# Altium footprint library Header-connector.PcbLib: 29 footprints (part 1 of 2)
Each footprint in its own frame and in the unit in brackets; x right, y up, seen from the top. Pads: shape width x height; smd on the part's side, far side on the other; paste and mask are expansions set on the pad; w line width, h text height; cw(c..) or ccw(c..) is an arc to the next point about the centre after c.
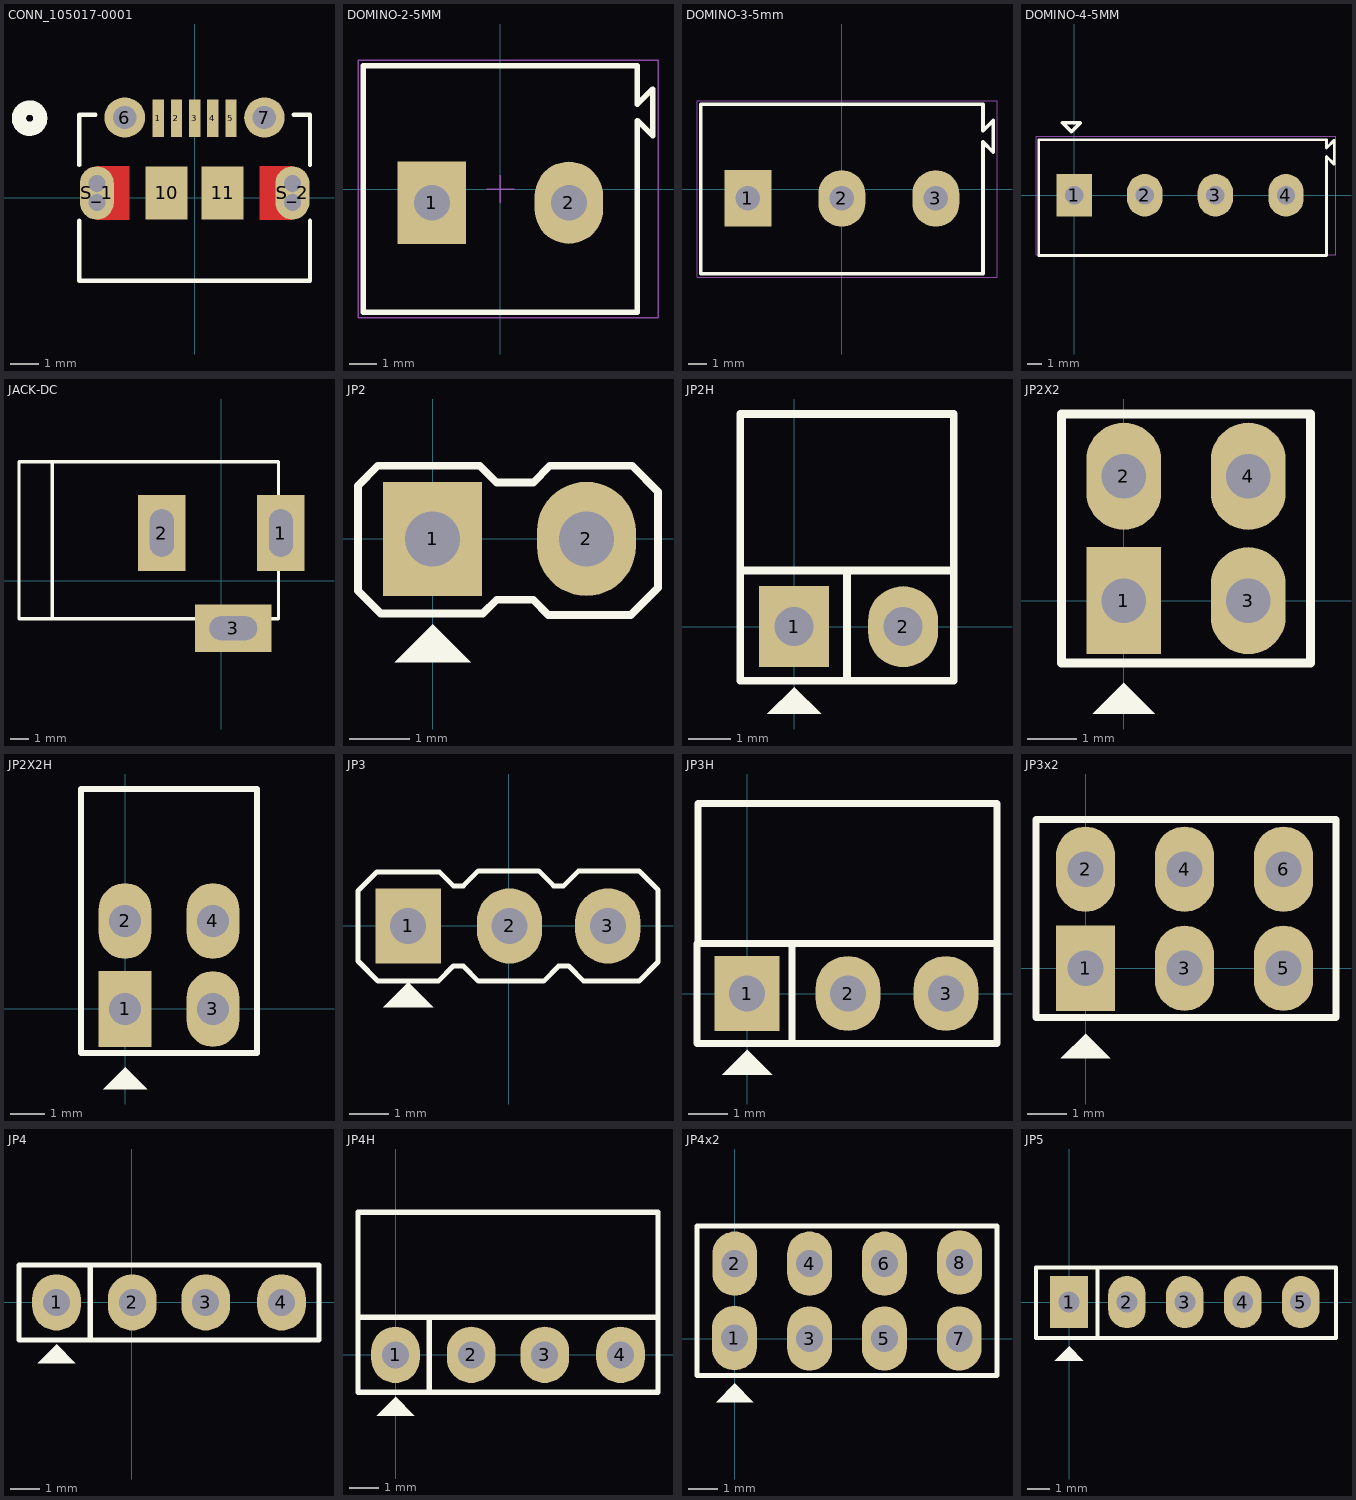
[diagram p0: the footprints below, top view; thin cyan lines are the x and y axes]

## CONN_105017-0001 [mil]
pads (15):
  rect 16x53 smd: 1(-51.18,112) 2(-25.59,112) 3(0,112) 4(25.59,112) 5(51.18,112)
  round 57 hole 33: 6(-98.43,112.98) 7(98.43,112.98)
  rect 59x75 smd: 10(-39.37,6.68) 11(39.37,6.68)
  oval 48x75 hole 1 mask+0: S_1(-137.8,6.68) S_2(137.8,6.68)
  round 24 hole 24: S_1_H1(-137.8,20.18) S_1_H2(-137.8,-6.82) S_2_H1(137.8,20.18) S_2_H2(137.8,-6.82)
Top Layer:
  region: -91.8,-30.82 -91.8,44.19 -137.8,44.19 -137.8,-30.82
  region: 91.8,-30.82 91.8,44.19 137.8,44.19 137.8,-30.82
Top Overlay:
  circle w20: c-232.5,112 r15
  lines w6: -162.5,-32.59 -162.5,-117 162.5,-117 162.5,-32.59 ; -162.5,45.96 -162.5,117 -139.83,117 ; 139.83,117 162.5,117 162.5,45.96
Bottom Overlay:
  circle w20: c-232.5,112 r15
Top Paste:
  region: 91.8,-30.82 91.8,44.19 137.8,44.19 137.8,-30.82
  region: -91.8,-30.82 -91.8,44.19 -137.8,44.19 -137.8,-30.82
Top Solder:
  region: 91.8,-30.82 91.8,44.19 137.8,44.19 137.8,-30.82
  region: -91.8,-30.82 -91.8,44.19 -137.8,44.19 -137.8,-30.82
Multi-Layer:
  lines w24: -137.8,-6.82 -137.8,20.18 ; 137.8,-6.82 137.8,20.18
3D body: height 10, standoff 0, extent 0,0 10,10
3D body "1050170001.stp": height 108.07, standoff -21.85, extent -161.42,-95 161.42,117.6

## DOMINO-2-5MM [mm] "Serie 1347 - 5.00 mm_2 pins"
height 13
pads (2):
  rect 2.5x3 hole 1.3: 1(-2.5,-0.5)
  oval 2.5x3 hole 1.3: 2(2.5,-0.5)
Top Overlay:
  lines w0.2: -5,-4.5 -5,4.5 5,4.5 5,3.1 5.55,3.65 5.55,1.95 5,2.5 5,-4.5 -5,-4.5
Mechanical 13:
  lines w0.1: -5,-4.5 5,-4.5 5,2.5 5.55,1.95 5.55,3.65 5,3.1 5,4.5 -5,4.5 -5,-4.5
Mechanical 15:
  lines w0.05: -0.5,0 0.5,0 ; 0,-0.5 0,0.5 ; -5.2,-4.7 -5.2,4.7 5.75,4.7 5.75,-4.7 -5.2,-4.7
3D body "691134710002.stp": height 13.1, standoff -3.9, extent -5,-4.5 5.55,4.5

## DOMINO-3-5mm [mm] "Serie 1347 - 5.00 mm_3 pins"
height 13
pads (3):
  rect 2.5x3 hole 1.3: 1(-5,-0.5)
  oval 2.5x3 hole 1.3: 2(0,-0.5) 3(5,-0.5)
Top Overlay:
  lines w0.2: -7.5,-4.5 7.5,-4.5 7.5,2.5 8.05,1.95 8.05,3.65 7.5,3.1 7.5,4.5 -7.5,4.5 -7.5,-4.5
Mechanical 13:
  lines w0.1: -7.5,-4.5 -7.5,4.5 7.5,4.5 7.5,3.1 8.05,3.65 8.05,1.95 7.5,2.5 7.5,-4.5 -7.5,-4.5
Mechanical 15:
  lines w0.05: -0.5,0 0.5,0 ; 0,-0.5 0,0.5 ; -7.7,-4.7 8.25,-4.7 8.25,4.7 -7.7,4.7 -7.7,-4.7
3D body "691134710003.stp": height 13.1, standoff -3.9, extent -7.5,-4.5 8.05,4.5

## DOMINO-4-5MM [mm]
pads (4):
  rect 2.5x3 hole 1.3: 1(0,0)
  oval 2.5x3 hole 1.3: 2(5,0) 3(10,0) 4(15,0)
Top Overlay:
  lines w0.2: -2.5,-4.254 -2.5,3.937 17.865,3.937 17.865,3.346 18.415,3.896 18.415,2.196 17.865,2.746 17.865,-4.254 -2.5,-4.254
  lines w0.254: -0.826,5.143 0.445,5.143 -0.191,4.508 -0.826,5.143
Mechanical 15:
  lines w0.05: -2.7,-4.2 -2.7,4.191 18.542,4.191 18.542,-4.2 -2.7,-4.2
3D body "691241710004_Download_STP_691241710004_rev1.stp": height 10, standoff -3.5, extent -2.38,-4.191 17.62,3.909

## JACK-DC [mil] "Jack DC input"
height 200
pads (3):
  rect 100x160 hole 50 slot 100 at 90 deg: 1(125,100) 2(-125,100)
  rect 160x100 hole 50 slot 100 at 0 deg: 3(25,-100)
Top Overlay:
  lines w7: -355,-80 -355,250 ; -425,-80 120,-80 120,250 -425,250 -425,-80
3D body "SW3dPS-dc range - dc connector[4840.2201].STEP": height 433.67, standoff -137.2, extent -410.35,-105.12 134,269.12

## JP2 [mil]
pads (2):
  rect 65x75 hole 36: 1(0,0)
  oval 65x75 hole 36: 2(101,0)
Top Overlay:
  region: 0,-56 -25,-81 25,-81
  lines w5: 30,-49 33,-49 ; 33,-49 42,-40 66,-40 76,-50 130,-50 148,-32 148,31 131,48 77,48 66,37 42,37 31,48 -36,48 -49,35 -49,-34 -34,-49 33,-49
3D body "JP2.stp": height 323.44, standoff -117.51, extent -48.03,-50 148.03,48.43

## JP2H [mil]
pads (2):
  rect 65x75 hole 36: 1(0,0)
  oval 65x75 hole 36: 2(101,0)
Top Overlay:
  region: 0,-56 -25,-81 25,-81
  lines w7: 49,-50 49,49 ; 148,54 148,197 -50,197 -50,52 ; -50,52 148,52 148,-50 -50,-50 -50,52
3D body "JP2H.stp": height 99.03, standoff -93.89, extent -44.13,-14.29 148,424.29

## JP2X2 [mil]
pads (4):
  rect 60x86 hole 36: 1(0,0)
  oval 60x86 hole 36: 2(0,100) 3(100,0) 4(100,100)
Top Overlay:
  region: 0,-66 -25,-91 25,-91
  lines w7: -50,-50 -50,50 -50,150 150,150 150,-50 -50,-50
3D body "JP2X2.stp": height 335.25, standoff -117.51, extent -49.99,-49.99 150.01,150.01

## JP2X2H [mil]
pads (4):
  rect 60x86 hole 36: 1(0,0)
  oval 60x86 hole 36: 2(0,100) 3(100,0) 4(100,100)
Top Overlay:
  region: 0,-66 -25,-91 25,-91
  lines w7: -50,-50 -50,50 -50,250 150,250 150,-50 -50,-50
3D body "4 cong cong.stp": height 197.45, standoff -117.51, extent -50,-13.54 150,493.54

## JP3 [mil] "Jumper 3"
height 200
pads (3):
  rect 65x75 hole 36: 1(-100,0)
  oval 65x75 hole 36: 2(1,0) 3(99,0)
Top Overlay:
  region: -100,-56 -125,-81 -75,-81
  lines w5: -150,-35 -150,35 -131,54 -69,54 -55,40 -45,40 -30,55 30,55 45,40 55,40 70,55 130,55 149,36 149,-36 130,-55 75,-55 60,-40 50,-40 35,-55 -30,-55 -45,-40 -55,-40 -70,-55 -130,-55 -150,-35
3D body "User Library-PinHeaderX3.STEP": height 355.04, standoff -124.88, extent -150,-59.96 150,55

## JP3H [mil]
pads (3):
  rect 65x75 hole 36: 1(0,0)
  oval 65x75 hole 36: 2(101,0) 3(199,0)
Top Overlay:
  region: 0,-56 -25,-81 25,-81
  lines w7: 45,-50 45,49 ; -50,50 -50,-50 250,-50 250,50 ; -50,50 250,50 ; -50,50 -49,50 -49,190 250,190 250,50
3D body "JP3H.stp": height 99.03, standoff -93.89, extent -47.07,-14.96 245.06,423.62

## JP3x2 [mil] "Connector 3x2"
height 200
pads (6):
  rect 60x86 hole 36: 1(0,0)
  oval 60x86 hole 36: 2(0,100) 3(100,0) 4(100,100) 5(200,0) 6(200,100)
Top Overlay:
  region: -0.01,-66 -25.01,-91 24.99,-91
  lines w7: -50.01,-50 252.99,-50 252.99,150 -50.01,150 -50.01,50 -50.01,-50
3D body "JP2-3.stp": height 335.24, standoff -117.51, extent -50,-50 250,150

## JP4 [mil] "Jumper 4"
height 200
pads (4):
  oval 65x75 hole 36: 1(-100,0) 2(1,0) 3(99,0) 4(200,0)
Top Overlay:
  region: -100,-56 -125,-81 -75,-81
  lines w7: -55,-50 -55,49 ; -150,-50 250,-50 250,50 -150,50 -150,-50
3D body "JP4.stp": height 323.44, standoff -117.51, extent -148.03,-48.43 248.03,50

## JP4H [mil]
pads (4):
  oval 65x75 hole 36: 1(0,0) 2(101,0) 3(199,0) 4(300,0)
Top Overlay:
  region: 0,-56 -25,-81 25,-81
  lines w7: 45,-50 45,49 ; -50,50 -50,190 350,190 350,50 ; -50,50 -50,-50 350,-50 350,50 ; -50,50 350,50
3D body "JP4H.stp": height 99.03, standoff -93.89, extent -46.06,-14.96 346.07,423.63

## JP4x2 [mil] "Connector 4x2"
height 200
pads (8):
  oval 60x86 hole 36: 1(-0.5,0.5) 2(0,100) 3(100,0) 4(100,100) 5(200,0) 6(200,100) 7(300,0) 8(300.5,101.5)
Top Overlay:
  region: 0,-60 -25,-85 25,-85
  lines w7: -50.5,-49.5 -50.5,50.5 -50.5,150.5 350.5,150.5 350.5,-49.5 -50.5,-49.5
3D body "JP2-4.stp": height 335.25, standoff -117.51, extent -46.99,-49.99 353.01,150.01

## JP5 [mil] "JP5"
height 200
pads (5):
  rect 65x90 hole 36: 1(0,0)
  oval 65x90 hole 36: 2(100,0) 3(200,0) 4(300,0) 5(400,0)
Top Overlay:
  region: 0,-76 -25,-101 25,-101
  lines w7: 49,-60 49,58 ; -57,-62 -57,60 461,60 461,-62 -57,-62
3D body "JP1-5.stp": height 323.43, standoff -117.51, extent -48.03,-53.43 448.03,45